# Altium schematic symbol library ERJU08F4703V.SchLib: 1 symbol
Pins are listed as number, name and electrical type; pins without a type are passive.

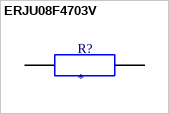
[diagram p0: symbol ERJU08F4703V]

## ERJU08F4703V
designator R?
ERJU08F4703V; Package: None; Price: None; MP: ERJU08F4703V; Availability: Unavailable; Value: *
footprint RES_ERJU08F4703V
pins: 1, 2